# Altium schematic symbol library Schematic Components.SchLib: 39 symbols (part 1 of 2)
Pins are listed as number, name and electrical type; pins without a type are passive.

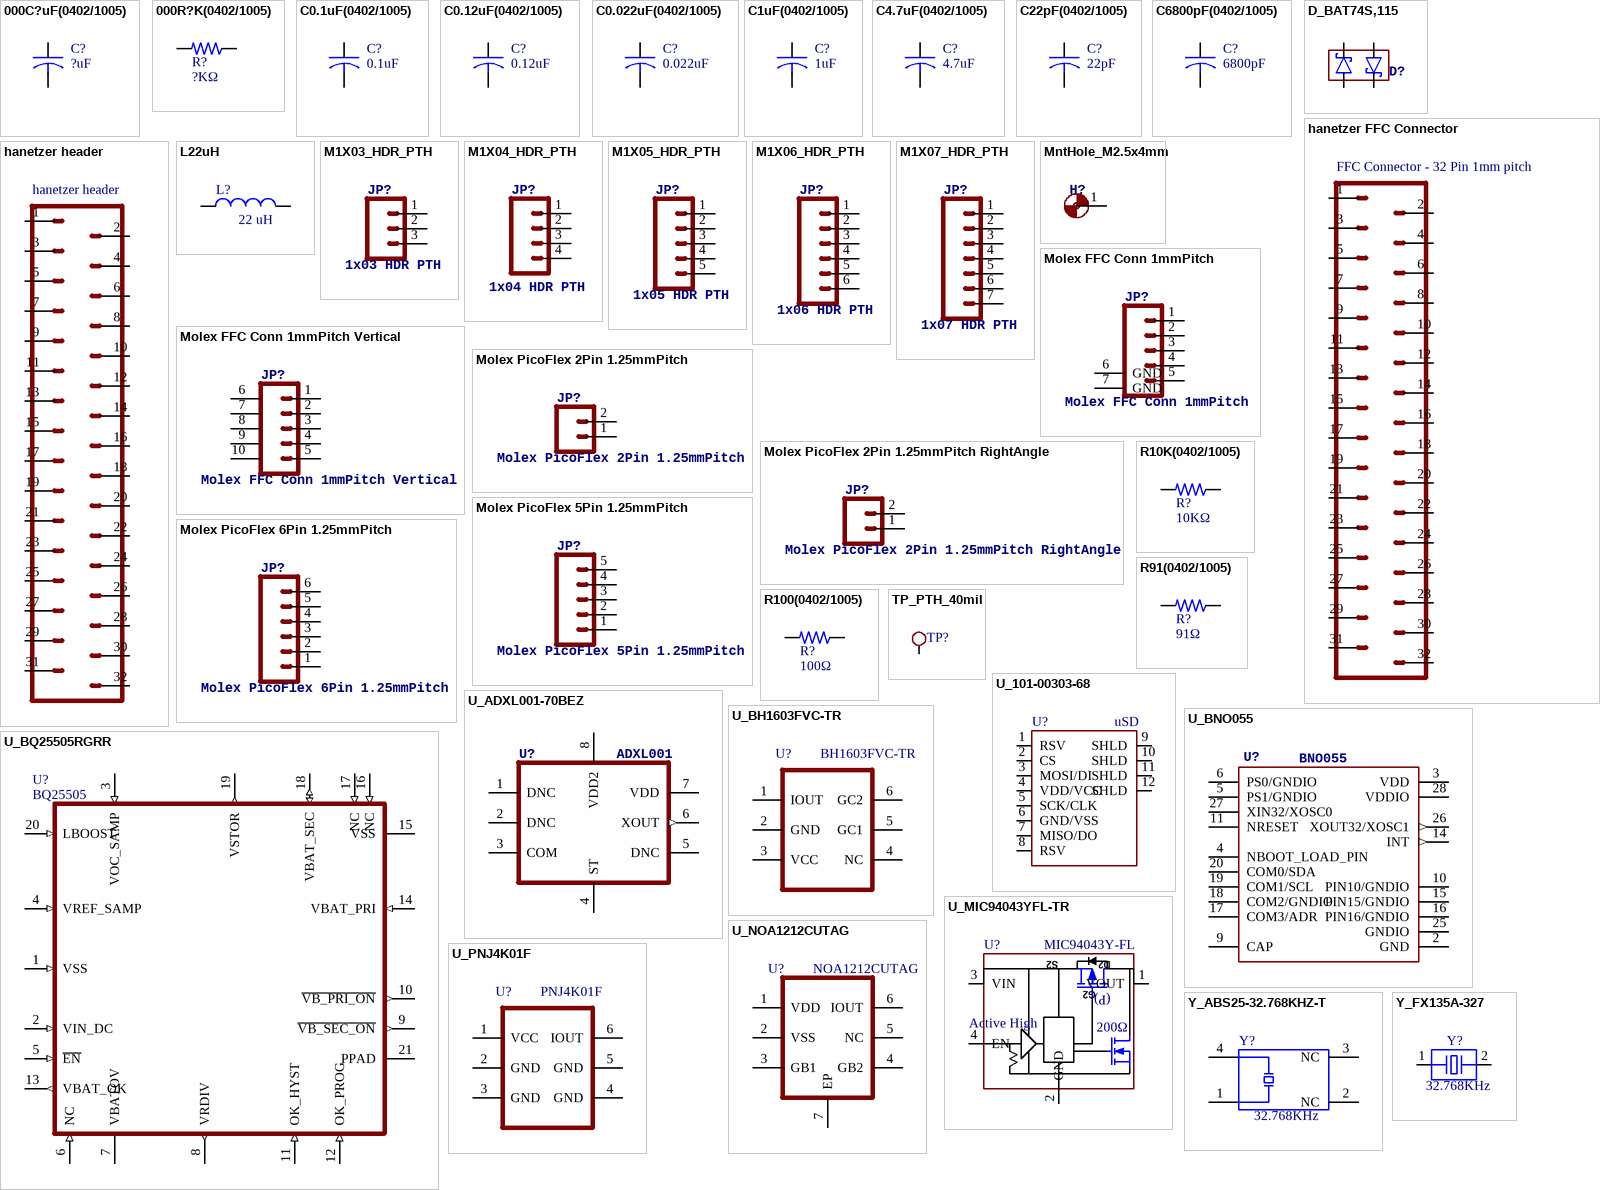
[diagram p0: symbols 000C?uF(0402/1005) to Y_FX135A-327]

## 000C?uF(0402/1005)
designator C?, comment ?uF
?uF Capacitor
footprint C0402_1005 (Chip Capacitor, 2-Leads, Body 1.00x0.50mm, IPC Medium Density)
pins: 1, 2

## 000R?K(0402/1005)
designator R?, comment ?KΩ
?KΩ Resistor
footprint R0402_1005 (Chip Resistor, 2-Leads, Body 1.00x0.50mm, IPC Medium Density)
pins: 1, 2

## C0.1uF(0402/1005)
designator C?, comment 0.1uF
0.1uF Capacitor (100nF); Manufacturer: Murata Electronics; Manufacturer Part Number: GRM155R71E104KE14D; Tolerance: 10 %; Type: General Purpose Ceramic Capacitors; Voltage Rating DC: 25 VDC; Capacitance - pF: 100000 pF; Class: Class 2; Dielectric: X7R; Supplier 1: Mouser; Supplier Part Number 1: 81-GRM155R71E104KE4D; RoHS: RoHS Compliant; Category: Multilayer Ceramic Capacitors MLCC - SMD/SMT; Stock 1: 1638426; Pricing 1: 1=0.100, 10=0.014, 100=0.009, 500=0.008, 1000=0.006, 2500=0.005, 10000=0.004, 50000=0.003 (USD); Capacitance: 0.1 uF; Height: 0.5 mm; Length: 1 mm; Package / Case: 0402 (1005 metric); Packaging: Reel; Product: General Type MLCCs; Series: GRM; Termination Style: SMD/SMT; Width: 0.5 mm; Brand: Murata Electronics; Capacitance - nF: 100 nF; Case Code - in: 0402; Case Code - mm: 1005; Maximum Operating Temperature: + 125 C; Minimum Operating Temperature: - 55 C; Standard Pack Qty: 10000; RoHS - Mouser: Y; Minimum Order Quantity: 1; Reeling: True; ComponentLink1URL: http://www.mouser.com/ds/2/281/c02e-2905.pdf; ComponentLink1Description: http://www.mouser.com/ds/2/281/c02e-2905.pdf; Supplier 2: Digi-Key; Supplier Part Number 2: 490-10698-1-ND
footprint C0402_1005 (Chip Capacitor, 2-Leads, Body 1.00x0.50mm, IPC Medium Density)
pins: 1, 2

## C0.12uF(0402/1005)
designator C?, comment 0.12uF
0.12uF Capacitor (120nF); Manufacturer: Murata Electronics North America; Manufacturer Part Number: GRM155R61A124KE19D; Capacitance: 0.12µF; Tolerance: ±10%; Voltage - Rated: 10V; Temperature Coefficient: X5R; Voltage Rating: 10; Voltage Rating DC: 10 V; Supplier 1: Digi-Key; Supplier Part Number 1: 490-6299-1-ND; RoHS: RoHS Compliant; Category: Capacitors; Stock 1: 71217; Pricing 1: 1=0.13, 10=0.091, 50=0.0522, 100=0.0432, 250=0.03636, 500=0.03046, 1000=0.025, 5000=0.02113 (USD); Packaging: Cut Tape (CT); Part Status: Active; Operating Temperature: -55°C ~ 85°C; Features: -; Ratings: -; Applications: General Purpose; Mounting Type: Surface Mount, MLCC; Package / Case: 0402 (1005 Metric); Size / Dimension: 0.039" L x 0.020" W (1.00mm x 0.50mm); Height - Seated (Max): -; Thickness (Max): 0.022" (0.55mm); Lead Spacing: -; ComponentLink1URL: http://www.murata.com/~/media/webrenewal/support/library/catalog/products/capacitor/mlcc/c02e.ashx; ComponentLink1Description: http://www.murata.com/~/media/webrenewal/support/library/catalog/products/capacitor/mlcc/c02e.ashx; Supplier 2: Mouser; Supplier Part Number 2: 81-GRM155R61A124KE9D; Stock 2: 15831; Pricing 2: 1=0.12, 10=0.052, 50=0.052, 100=0.036, 1000=0.025, 10000=0.017 (USD); Mount: Surface Mount; Case/Package: 0402; Case Code (Imperial): 0402; Case Code (Metric): 1005; Min Operating Temperature: -55; Max Operating Temperature: 85; Package Quantity: 10000; Type (Capacitors): X5R; Length: 0.039; Height: 0.5; Width: 0.02; Radiation Hardening: No; ComponentLink2URL: https://datasheet.ciiva.com/5421/product-5421508.pdf; ComponentLink2Description: https://datasheet.ciiva.com/5421/product-5421508.pdf; ComponentLink3URL: https://datasheet.ciiva.com/6270/partnumbering-e-01-6270634.pdf; ComponentLink3Description: https://datasheet.ciiva.com/6270/partnumbering-e-01-6270634.pdf; ComponentLink4URL: https://datasheet.ciiva.com/11618/product-11618490.pdf; ComponentLink4Description: https://datasheet.ciiva.com/11618/product-11618490.pdf; ComponentLink5URL: https://datasheet.ciiva.com/6270/partnumbering-e-01-6270635.pdf; ComponentLink5Description: https://datasheet.ciiva.com/6270/partnumbering-e-01-6270635.pdf; ComponentLink6URL: https://datasheet.ciiva.com/6270/partnumbering-e-01-6270636.pdf; ComponentLink6Description: https://datasheet.ciiva.com/6270/partnumbering-e-01-6270636.pdf; Dielectric: X5R
footprint C0402_1005 (Chip Capacitor, 2-Leads, Body 1.00x0.50mm, IPC Medium Density)
pins: 1, 2

## C0.022uF(0402/1005)
designator C?, comment 0.022uF
0.022uF Capacitor (22nF); Manufacturer: Murata Electronics North America; Manufacturer Part Number: GRM155R71E223JA61D; Capacitance: 0.022µF; Tolerance: ±5%; Voltage - Rated: 25V; Temperature Coefficient: X7R; Voltage Rating: 25; Voltage Rating DC: 25 V; Supplier 1: Digi-Key; Supplier Part Number 1: 490-10699-1-ND; RoHS: RoHS Compliant; Category: Capacitors; Stock 1: 49584; Pricing 1: 1=0.1, 10=0.059, 50=0.0322, 100=0.0272, 250=0.02228, 500=0.01906, 1000=0.01485, 5000=0.01237 (USD); Packaging: Cut Tape (CT); Part Status: Active; Operating Temperature: -55°C ~ 125°C; Features: -; Ratings: -; Applications: General Purpose; Mounting Type: Surface Mount, MLCC; Package / Case: 0402 (1005 Metric); Size / Dimension: 0.039" L x 0.020" W (1.00mm x 0.50mm); Height - Seated (Max): -; Thickness (Max): 0.022" (0.55mm); Lead Spacing: -; Lead Style: -; ComponentLink1URL: http://www.murata.com/~/media/webrenewal/support/library/catalog/products/capacitor/mlcc/c02e.ashx; ComponentLink1Description: http://www.murata.com/~/media/webrenewal/support/library/catalog/products/capacitor/mlcc/c02e.ashx; Supplier 2: Mouser; Supplier Part Number 2: 81-GRM155R71E223JA1D; Stock 2: 39233; Pricing 2: 1=0.1, 10=0.032, 50=0.032, 100=0.022, 1000=0.015, 10000=0.01 (USD); Case/Package: 0402; Case Code (Metric): 1005; Case Code (Imperial): 0402; Min Operating Temperature: -55; Max Operating Temperature: 125; Package Quantity: 10000; Voltage Rating (DC): 25; Type (Capacitors): X7R; Length: 0.039; Height: 0.5; Width: 0.02; ComponentLink2URL: https://datasheet.ciiva.com/29535/grm155r71e223ka61-01-29535418.pdf; ComponentLink2Description: https://datasheet.ciiva.com/29535/grm155r71e223ka61-01-29535418.pdf; ComponentLink3URL: https://datasheet.ciiva.com/5427/product-5427580.pdf; ComponentLink3Description: https://datasheet.ciiva.com/5427/product-5427580.pdf; Dielectric: X7R
footprint C0402_1005 (Chip Capacitor, 2-Leads, Body 1.00x0.50mm, IPC Medium Density)
pins: 1, 2

## C1uF(0402/1005)
designator C?, comment 1uF
1uF Capacitor; Manufacturer: Murata Electronics North America; Manufacturer Part Number: GRT155R61E105KE01D; Capacitance: 1µF; Tolerance: ±10%; Voltage - Rated: 25V; Temperature Coefficient: X5R; Supplier 1: Digi-Key; Supplier Part Number 1: 490-12263-1-ND; RoHS: RoHS Compliant; Category: Capacitors; Stock 1: 51226; Pricing 1: 1=0.11, 10=0.079, 100=0.0373, 500=0.02616, 1000=0.02166, 2500=0.02016, 5000=0.01844 (USD); Packaging: Cut Tape (CT); Part Status: Active; Operating Temperature: -55°C ~ 85°C; Features: Derating Recommended; Ratings: AEC-Q200; Applications: Automotive; Mounting Type: Surface Mount, MLCC; Package / Case: 0402 (1005 Metric); Size / Dimension: 0.039" L x 0.020" W (1.00mm x 0.50mm); Height - Seated (Max): -; Thickness (Max): 0.022" (0.55mm); Lead Spacing: -; Lead Style: -; ComponentLink1URL: http://search.murata.co.jp/Ceramy/image/img/A01X/G101/ENG/GRT155R61E105KE01-01.pdf; ComponentLink1Description: http://search.murata.co.jp/Ceramy/image/img/A01X/G101/ENG/GRT155R61E105KE01-01.pdf
footprint C0402_1005 (Chip Capacitor, 2-Leads, Body 1.00x0.50mm, IPC Medium Density)
pins: 1, 2

## C4.7uF(0402/1005)
designator C?, comment 4.7uF
4.7uF Capacitor; Manufacturer: TDK Corporation; Manufacturer Part Number: C1005X5R1A475K050BC; Capacitance: 4.7µF; Tolerance: ±10%; Voltage - Rated: 10V; Temperature Coefficient: X5R; Voltage Rating: 10; Voltage Rating DC: 10 V; Supplier 1: Digi-Key; Supplier Part Number 1: 445-13820-1-ND; RoHS: RoHS Compliant; Category: Capacitors; Stock 1: 276778; Pricing 1: 1=0.48, 10=0.424, 100=0.2121, 250=0.16968, 500=0.15454, 1000=0.13938, 5000=0.11514 (USD); Packaging: Cut Tape (CT); Part Status: Active; Operating Temperature: -55°C ~ 85°C; Features: Low ESL; Ratings: -; Applications: General Purpose; Failure Rate: -; Mounting Type: Surface Mount, MLCC; Package / Case: 0402 (1005 Metric); Size / Dimension: 0.039" L x 0.020" W (1.00mm x 0.50mm); Height - Seated (Max): -; Thickness (Max): 0.022" (0.55mm); Lead Spacing: -; Lead Style: -; ComponentLink1URL: https://product.tdk.com/info/en/catalog/datasheets/mlcc_commercial_general_en.pdf; ComponentLink1Description: https://product.tdk.com/info/en/catalog/datasheets/mlcc_commercial_general_en.pdf; Supplier 2: Mouser; Supplier Part Number 2: 810-C1005X5R1A475KBC; Stock 2: 157419; Pricing 2: 1=0.48, 10=0.42, 50=0.42, 100=0.168, 1000=0.138, 10000=0.096 (USD); Case/Package: 0402; Case Code (Metric): 1005; Case Code (Imperial): 0402; Min Operating Temperature: -55; Max Operating Temperature: 85; Package Quantity: 10000; Type (Capacitors): X5R; Length: 0.039; Height: 0.5; Width: 0.02; ComponentLink2URL: https://datasheet.ciiva.com/14895/tdkmlcccaprange-14895670.pdf; ComponentLink2Description: https://datasheet.ciiva.com/14895/tdkmlcccaprange-14895670.pdf; ComponentLink3URL: https://datasheet.ciiva.com/14895/tdkmlcccaprange-14895671.pdf; ComponentLink3Description: https://datasheet.ciiva.com/14895/tdkmlcccaprange-14895671.pdf; ComponentLink4URL: https://datasheet.ciiva.com/14895/tdkmlcccaprange-14895672.pdf; ComponentLink4Description: https://datasheet.ciiva.com/14895/tdkmlcccaprange-14895672.pdf; Dielectric: X5R
footprint C0402_1005 (Chip Capacitor, 2-Leads, Body 1.00x0.50mm, IPC Medium Density)
pins: 1, 2

## C22pF(0402/1005)
designator C?, comment 22pF
22pF Capacitor; Manufacturer: Samsung Electro-Mechanics America, Inc.; Manufacturer Part Number: CL05C220JB5NGNC; Tolerance: ±5%; Voltage - Rated: 50V; Temperature Coefficient: C0G, NP0; Dielectric: C0G (NP0); Voltage Rating DC: 50 V; Supplier 1: Digi-Key; Supplier Part Number 1: 1276-6529-1-ND; RoHS: RoHS Compliant; Category: Capacitors; Stock 1: 204339; Pricing 1: 1=0.1, 10=0.01, 25=0.0048, 50=0.0038, 100=0.003, 250=0.00256, 500=0.00218, 1000=0.00171, 5000=0.00143 (USD); Packaging: Cut Tape (CT); Part Status: Active; Capacitance: 22pF; Operating Temperature: -55°C ~ 125°C; Features: -; Ratings: -; Applications: General Purpose; Mounting Type: Surface Mount, MLCC; Package / Case: 0402 (1005 Metric); Size / Dimension: 0.039" L x 0.020" W (1.00mm x 0.50mm); Height - Seated (Max): -; Thickness (Max): 0.022" (0.55mm); Lead Spacing: -; Lead Style: -; ComponentLink1URL: http://www.samsungsem.com/kr/support/library/product-catalog/__icsFiles/afieldfile/2016/09/27/MLCC.pdf; ComponentLink1Description: http://www.samsungsem.com/kr/support/library/product-catalog/__icsFiles/afieldfile/2016/09/27/MLCC.pdf
footprint C0402_1005 (Chip Capacitor, 2-Leads, Body 1.00x0.50mm, IPC Medium Density)
pins: 1, 2

## C6800pF(0402/1005)
designator C?, comment 6800pF
6800pF Capacitor; Manufacturer: Samsung Electro-Mechanics America, Inc.; Manufacturer Part Number: CL05B682JB5NNNC; Tolerance: ±5%; Voltage - Rated: 50V; Temperature Coefficient: X7R; Voltage Rating DC: 50 V; Supplier 1: Digi-Key; Supplier Part Number 1: 1276-1584-1-ND; RoHS: RoHS Compliant; Category: Capacitors; Stock 1: 13900; Pricing 1: 1=0.11, 10=0.078, 25=0.0568, 50=0.0426, 100=0.0348, 250=0.02916, 500=0.02488, 1000=0.01955, 5000=0.01635 (USD); Packaging: Cut Tape (CT); Part Status: Active; Capacitance: 6800pF; Operating Temperature: -55°C ~ 125°C; Features: -; Ratings: -; Applications: General Purpose; Mounting Type: Surface Mount, MLCC; Package / Case: 0402 (1005 Metric); Size / Dimension: 0.039" L x 0.020" W (1.00mm x 0.50mm); Height - Seated (Max): -; Thickness (Max): 0.022" (0.55mm); Lead Spacing: -; Lead Style: -; ComponentLink1URL: http://www.samsungsem.com/kr/support/product-search/mlcc/__icsFiles/afieldfile/2016/08/18/S_CL05B682JB5NNNC.pdf; ComponentLink1Description: http://www.samsungsem.com/kr/support/product-search/mlcc/__icsFiles/afieldfile/2016/08/18/S_CL05B682JB5NNNC.pdf; Dielectric: X7R
footprint C0402_1005 (Chip Capacitor, 2-Leads, Body 1.00x0.50mm, IPC Medium Density)
pins: 1, 2

## D_BAT74S,115
designator D?  (value not drawn)
Dual Schottky Barrier Diode; Manufacturer: Nexperia USA Inc.; Diode Configuration: 2 Independent; Voltage - DC Reverse (Vr) (Max): 30V; Current - Average Rectified (Io) (per Diode): 200mA (DC); Voltage - Forward (Vf) (Max) @ If: 800mV @ 100mA; Speed: Small Signal =< 200mA (Io), Any Speed; Current - Reverse Leakage @ Vr: 2µA @ 25V; Supplier 1: Digi-Key; Supplier Part Number 1: 1727-1563-1-ND; Manufacturer Part Number: BAT74S,115; RoHS: RoHS Compliant; Category: Discrete Semiconductor Products; Stock 1: 2714; Pricing 1: 1=0.51, 10=0.38, 100=0.2151, 500=0.14242, 1000=0.10919 (USD); Packaging: Cut Tape (CT); Part Status: Active; Diode Type: Schottky; Operating Temperature - Junction: 125°C (Max); Mounting Type: Surface Mount; Package / Case: 6-TSSOP, SC-88, SOT-363; Supplier Device Package: 6-TSSOP; ComponentLink1URL: http://assets.nexperia.com/documents/data-sheet/BAT74S.pdf; ComponentLink1Description: http://assets.nexperia.com/documents/data-sheet/BAT74S.pdf
footprint D_BAT74S,115 (SOT23, 6-Leads, Body 2.00x2.10mm, Pitch 0.65mm, IPC Medium Density)
pins: 1 A1, 3 K2, 4 A2, 6 K1

## hanetzer FFC Connector
designator FFC Connector - 32 Pin 1mm pitch  (value not drawn)
Manufacturer: Amphenol FCI; Manufacturer Part Number: HFW32S-2STE1LF; Current Rating: 1 A; Mounting Angle: Straight; Number of Positions: 32 Position; Voltage Rating: 100 VAC/DC; Pitch: 1 mm; Actuation Type: Non ZIF; Contact Location: Bottom Contact; Insulation Resistance: 500 MOhms; Supplier 1: Mouser; Supplier Part Number 1: 649-HFW32S-2STE1LF; RoHS: RoHS Compliant; Category: FFC & FPC Connectors; Stock 1: 1236; Pricing 1: 1=0.530, 10=0.393, 100=0.377, 500=0.327, 1000=0.270, 2000=0.246, 5000=0.238, 10000=0.221, 25000=0.218 (USD); Contact Plating: Tin; Housing Material: Polyamide (PA); Packaging: Cut Tape; Product: Board Mount; Series: HFW-S; Termination Style: SMD; Brand: Amphenol FCI; Contact Material: Phosphor Bronze; Maximum Operating Temperature: + 85 C; Minimum Operating Temperature: - 55 C; Standard Pack Qty: 1000; RoHS - Mouser: Y; Minimum Order Quantity: 1; Reeling: True; ComponentLink1URL: https://www.mouser.com/ds/2/18/sc-hfws06-943200.pdf; ComponentLink1Description: https://www.mouser.com/ds/2/18/sc-hfws06-943200.pdf
footprint Hanetzer 32Pin FCC Connector
pins: 1, 2, 3, 4, 5, 6, 7, 8, 9, 10, 11, 12, 13, 14, 15, 16, 17, 18, 19, 20, 21, 22, 23, 24, 25, 26, 27, 28, 29, 30, 31, 32

## hanetzer header
designator hanetzer header  (value not drawn)
footprint hanetzer header
pins: 1, 2, 3, 4, 5, 6, 7, 8, 9, 10, 11, 12, 13, 14, 15, 16, 17, 18, 19, 20, 21, 22, 23, 24, 25, 26, 27, 28, 29, 30, 31, 32

## L22uH
designator L?, comment 22 uH
22uH Inductor; Manufacturer: Murata Electronics North America; Manufacturer Part Number: 1264EY-220M=P3; Type: Wirewound; Material - Core: Ferrite; Inductance: 22µH; Tolerance: ±20%; Current Rating: 2.3A; Shielding: Shielded; DC Resistance (DCR): 132 mOhm Max; Frequency - Test: 100kHz; Supplier 1: Digi-Key; Supplier Part Number 1: 490-10818-1-ND; RoHS: RoHS Compliant; Category: Inductors, Coils, Chokes; Stock 1: 2806; Pricing 1: 1=0.38, 10=0.338, 25=0.3, 50=0.2626, 100=0.2438, 250=0.225, 500=0.21376, 750=0.195 (USD); Packaging: Cut Tape (CT); Part Status: Active; Current - Saturation: -; Q @ Freq: -; Frequency - Self Resonant: -; Ratings: -; Operating Temperature: -; Mounting Type: Surface Mount; Package / Case: Nonstandard; Supplier Device Package: -; Size / Dimension: 0.248" L x 0.248" W (6.30mm x 6.30mm); Height - Seated (Max): 0.197" (5.00mm); ComponentLink1URL: http://www.toko.co.jp/products/pdf/inductors/dg6050c.pdf; ComponentLink1Description: http://www.toko.co.jp/products/pdf/inductors/dg6050c.pdf; Supplier 2: Mouser; Supplier Part Number 2: 81-1264EY-220MP3; Stock 2: 3590; Pricing 2: 1=0.5, 10=0.358, 50=0.358, 100=0.253, 1000=0.253, 10000=0.165 (USD)
footprint L_1264EY-220M=P3 (22uH Inductor, Precision Wire Wound Inductor, 2-Leads, Body 6.30x6.30mm, IPC Medium Density)
pins: 1, 2

## M1X03_HDR_PTH
designator JP?, comment 1x03 HDR PTH
1x03 Pin Header; Manufacturer: Wurth Electronics Inc; Manufacturer Part Number: 61300311121; Pitch - Mating: 0.100" (2.54mm); Shrouding: Unshrouded; Number of Positions: 3; Number of Positions Loaded: All; Contact Length - Mating: 0.236" (6.00mm); Supplier 1: Digi-Key; Supplier Part Number 1: 732-5316-ND; RoHS: RoHS Compliant; Category: Connectors, Interconnects; Stock 1: 10155; Pricing 1: 1=0.13, 10=0.106, 25=0.088, 50=0.074, 100=0.067, 1000=0.061 (USD); Packaging: Bulk; Part Status: Active; Connector Type: Header; Contact Type: Male Pin; Number of Rows: 1; Row Spacing - Mating: -; Mounting Type: Through Hole; Termination: Solder; Fastening Type: -; Features: -; Contact Finish - Mating: Gold; Contact Finish Thickness - Mating: -; Insulation Color: Black; Ingress Protection: -; ComponentLink1URL: http://katalog.we-online.de/em/datasheet/6130xx11121.pdf; ComponentLink1Description: http://katalog.we-online.de/em/datasheet/6130xx11121.pdf
footprint M1X03_HDR_PTH (1x03_HDR_PTH)
pins: 1, 2, 3

## M1X04_HDR_PTH
designator JP?, comment 1x04 HDR PTH
1x04 Pin Header; Manufacturer: Wurth Electronics Inc.; Manufacturer Part Number: 61300411121; Pitch - Mating: 0.100" (2.54mm); Style: Board to Board or Cable; Shrouding: Unshrouded; Number of Positions: 4; Number of Positions Loaded: All; Contact Length - Mating: 0.236" (6.00mm); Contact Length - Post: 0.118" (3.00mm); Overall Contact Length: 0.454" (11.54mm); Material Flammability Rating: UL94 V-0; Current Rating: 3A; Voltage Rating: 250V; Supplier 1: Digi-Key; Supplier Part Number 1: 732-5317-ND; RoHS: RoHS Compliant; Category: Connectors, Interconnects; Stock 1: 5637; Pricing 1: 1=0.24, 10=0.223, 25=0.19, 50=0.1664, 100=0.1544, 1000=0.10692, 10000=0.088 (USD); Packaging: Bulk; Part Status: Active; Connector Type: Header; Contact Type: Male Pin; Number of Rows: 1; Row Spacing - Mating: -; Mounting Type: Through Hole; Termination: Solder; Fastening Type: -; Insulation Height: 0.100" (2.54mm); Contact Shape: Square; Contact Finish - Mating: Gold; Contact Finish Thickness - Mating: -; Contact Finish - Post: -; Contact Material: Copper Alloy; Insulation Material: Polybutylene Terephthalate (PBT); Features: -; Operating Temperature: -40°C ~ 125°C; Ingress Protection: -; Insulation Color: Black; Mated Stacking Heights: -; Contact Finish Thickness - Post: -; Applications: -; ComponentLink1URL: http://katalog.we-online.de/em/datasheet/6130xx11121.pdf; ComponentLink1Description: http://katalog.we-online.de/em/datasheet/6130xx11121.pdf
footprint M1X04_HDR_PTH (1x04_HDR_PTH)
pins: 1, 2, 3, 4

## M1X05_HDR_PTH
designator JP?, comment 1x05 HDR PTH
1x05 Pin Header; Manufacturer: Wurth Electronics Inc; Manufacturer Part Number: 61300511121; Pitch - Mating: 0.100" (2.54mm); Shrouding: Unshrouded; Number of Positions: 5; Number of Positions Loaded: All; Contact Length - Mating: 0.236" (6.00mm); Supplier 1: Digi-Key; Supplier Part Number 1: 732-5318-ND; RoHS: RoHS Compliant; Category: Connectors, Interconnects; Stock 1: 8195; Pricing 1: 1=0.23, 100=0.2106, 500=0.1782 (USD); Packaging: Bulk; Part Status: Active; Connector Type: Header; Contact Type: Male Pin; Number of Rows: 1; Row Spacing - Mating: -; Mounting Type: Through Hole; Termination: Solder; Fastening Type: -; Features: -; Contact Finish - Mating: Gold; Contact Finish Thickness - Mating: -; Insulation Color: Black; Ingress Protection: -; ComponentLink1URL: http://katalog.we-online.de/em/datasheet/6130xx11121.pdf; ComponentLink1Description: http://katalog.we-online.de/em/datasheet/6130xx11121.pdf
footprint M1X05_HDR_PTH (1x05_HDR_PTH)
pins: 1, 2, 3, 4, 5

## M1X06_HDR_PTH
designator JP?, comment 1x06 HDR PTH
1x06 Pin Header; Manufacturer: Wurth Electronics Inc; Manufacturer Part Number: 61300611121; Pitch - Mating: 0.100" (2.54mm); Shrouding: Unshrouded; Number of Positions: 6; Number of Positions Loaded: All; Contact Length - Mating: 0.236" (6.00mm); Supplier 1: Digi-Key; Supplier Part Number 1: 732-5319-ND; RoHS: RoHS Compliant; Category: Connectors, Interconnects; Stock 1: 2975; Pricing 1: 1=0.31, 100=0.2808, 500=0.2376 (USD); Packaging: Bulk; Part Status: Active; Connector Type: Header; Contact Type: Male Pin; Number of Rows: 1; Row Spacing - Mating: -; Mounting Type: Through Hole; Termination: Solder; Fastening Type: -; Features: -; Contact Finish - Mating: Gold; Contact Finish Thickness - Mating: -; Insulation Color: Black; Ingress Protection: -; ComponentLink1URL: http://katalog.we-online.de/em/datasheet/6130xx11121.pdf; ComponentLink1Description: http://katalog.we-online.de/em/datasheet/6130xx11121.pdf
footprint M1X06_HDR_PTH (1x06_HDR_PTH)
pins: 1, 2, 3, 4, 5, 6

## M1X07_HDR_PTH
designator JP?, comment 1x07 HDR PTH
1x07 Pin Header; Manufacturer: Wurth Electronics Inc.; Manufacturer Part Number: 61300711121; Pitch - Mating: 0.100" (2.54mm); Style: Board to Board or Cable; Shrouding: Unshrouded; Number of Positions: 7; Number of Positions Loaded: All; Contact Length - Mating: 0.236" (6.00mm); Contact Length - Post: 0.118" (3.00mm); Overall Contact Length: 0.454" (11.54mm); Material Flammability Rating: UL94 V-0; Current Rating: 3A; Voltage Rating: 250V; Supplier 1: Digi-Key; Supplier Part Number 1: 732-5320-ND; RoHS: RoHS Compliant; Category: Connectors, Interconnects; Stock 1: 43; Pricing 1: 1=0.37, 10=0.315, 25=0.2632, 50=0.219, 100=0.199, 1000=0.181 (USD); Packaging: Bulk; Part Status: Active; Connector Type: Header; Contact Type: Male Pin; Number of Rows: 1; Row Spacing - Mating: -; Mounting Type: Through Hole; Termination: Solder; Fastening Type: Push-Pull; Insulation Height: 0.100" (2.54mm); Contact Shape: Square; Contact Finish - Mating: Gold; Contact Finish Thickness - Mating: -; Contact Finish - Post: -; Contact Material: Copper Alloy; Insulation Material: Polybutylene Terephthalate (PBT); Features: -; Operating Temperature: -40°C ~ 125°C; Ingress Protection: -; Insulation Color: Black; Mated Stacking Heights: -; Contact Finish Thickness - Post: -; Applications: -; ComponentLink1URL: http://katalog.we-online.de/em/datasheet/6130xx11121.pdf; ComponentLink1Description: http://katalog.we-online.de/em/datasheet/6130xx11121.pdf
footprint M1X07_HDR_PTH (1x07_HDR_PTH)
pins: 1, 2, 3, 4, 5, 6, 7

## MntHole_M2.5x4mm
designator H?, comment Mounting Hole  (value not drawn)  (no BOM)
Mount Hole for M2.5x4mm Machine Screws
footprint MntHole-M2.5x4mm (Mounting Hole, 2.5X4mm Machine Screws)
pins: 1

## Molex FFC Conn 1mmPitch
designator JP?
Manufacturer Part Number: 200528-0050; Gender: Receptacle; Rows: 1; Supplier 1: Mouser; Supplier Part Number 1: 538-200528-0050; Manufacturer: Molex; Stock 1: 0; Pricing 1: 1=0.41, 10=0.364, 50=0.364, 100=0.317, 1000=0.23, 10000=0.194 (USD); Termination: Surface Mount; Contact Plating: Gold; Contact Material: Bronze; REACH SVHC: Unknown; ComponentLink1URL: http://www.farnell.com/datasheets/2040137.pdf; ComponentLink1Description: http://www.farnell.com/datasheets/2040137.pdf
footprint Molex FFC Conn 1mmPitch
pins: 1, 2, 3, 4, 5, 6 GND, 7 GND

## Molex FFC Conn 1mmPitch Vertical
designator JP?
Manufacturer Part Number: 52610-0533; Rows: 1; Voltage Rating: 125; Positions: 5; Gender: Receptacle; Supplier 1: Mouser; Supplier Part Number 1: 538-52610-0533; Manufacturer: Molex; Stock 1: 1876; Pricing 1: 1=0.98, 10=0.839, 50=0.839, 100=0.766, 1000=0.547, 10000=0.485 (USD); Mount: Surface Mount; Case/Package: SMT; Min Operating Temperature: -40; Max Operating Temperature: 85; Contact Plating: Tin,Silver; Contact Material: Bronze; Housing Material: Nylon; Current Rating: 1; Package Quantity: 1000; Packaging: Tape and Reel; Pitch: 1; Termination: Solder; Contacts: 5; Orientation: Straight; Circuits: 5; REACH SVHC: Unknown; ComponentLink1URL: https://datasheet.ciiva.com/22747/1752219-22747849.pdf; ComponentLink1Description: https://datasheet.ciiva.com/22747/1752219-22747849.pdf; ComponentLink2URL: https://datasheet.ciiva.com/22747/1752219-22747850.pdf; ComponentLink2Description: https://datasheet.ciiva.com/22747/1752219-22747850.pdf; ComponentLink3URL: https://datasheet.ciiva.com/24132/0526100533-ffc-fpc-connectors-295170-24132559.pdf; ComponentLink3Description: https://datasheet.ciiva.com/24132/0526100533-ffc-fpc-connectors-295170-24132559.pdf
footprint Molex FFC Conn 1mmPitch Vertical
pins: 1, 2, 3, 4, 5, 6 GND, 7 GND, 8 GND, 9 GND, 10 GND

## Molex PicoFlex 2Pin 1.25mmPitch
designator JP?
Manufacturer Part Number: 53047-0210; Shape: Straight; Body Plating: Tin; Contact Resistance: 20; Current Rating: 1; Voltage Rating: 125; Number of Poles: 2; Insulation Resistance: 100; Gender: Male; Pitch: 1.25; Glow Wire Compliant: Non-compliant; Supplier 1: Mouser; Supplier Part Number 1: 538-53047-0210; Manufacturer: Molex; Stock 1: 20051; Pricing 1: 1=0.32, 10=0.233, 50=0.233, 100=0.201, 1000=0.146, 10000=0.128 (USD); Mount: Through Hole; Contact Plating: Nickel,Tin,Gold; Contact Material: Bronze,Brass,Tin; Housing Colour: Black; Colour: Natural; Housing Material: Polyamide; Min Operating Temperature: -40; Max Operating Temperature: 85; Number of Rows: 1; Voltage Rating (AC): 125; Max Current Rating: 1; Packaging: Tray; Package Quantity: 5000; Number of Positions: 2; Termination: Solder; Number of Contacts: 2; Working Voltage: 125; Orientation: Straight; Number of Circuits: 2; Voltage Rating (DC): 125; Length: 71.1; Height: 9.3; Lead Pitch: 1.25; Depth: 8.78; Radiation Hardening: No; REACH SVHC: Unknown; Lead Free: Lead Free; Flammability Rating: UL94 V-0; ComponentLink1URL: https://datasheet.ciiva.com/10090/0530470210-pcb-headers-10090352.pdf; ComponentLink1Description: https://datasheet.ciiva.com/10090/0530470210-pcb-headers-10090352.pdf; ComponentLink2URL: https://datasheet.ciiva.com/11750/0900766b8024e2fd-11750276.pdf; ComponentLink2Description: https://datasheet.ciiva.com/11750/0900766b8024e2fd-11750276.pdf; ComponentLink3URL: https://datasheet.ciiva.com/7920/1861728-7920822.pdf; ComponentLink3Description: https://datasheet.ciiva.com/7920/1861728-7920822.pdf; ComponentLink4URL: https://datasheet.ciiva.com/30132/224410530470210-pcb-headers-30132247.pdf; ComponentLink4Description: https://datasheet.ciiva.com/30132/224410530470210-pcb-headers-30132247.pdf; ComponentLink5URL: https://datasheet.ciiva.com/19462/2018301-19462329.pdf; ComponentLink5Description: https://datasheet.ciiva.com/19462/2018301-19462329.pdf; ComponentLink6URL: https://datasheet.ciiva.com/5155/0530470210-pcb-headers-170763-5155194.pdf; ComponentLink6Description: https://datasheet.ciiva.com/5155/0530470210-pcb-headers-170763-5155194.pdf; ComponentLink7URL: https://datasheet.ciiva.com/19461/1973787-19461710.pdf; ComponentLink7Description: https://datasheet.ciiva.com/19461/1973787-19461710.pdf
footprint Molex PicoFlex 2Pin 1.25mmPitch
pins: 1, 2

## Molex PicoFlex 2Pin 1.25mmPitch RightAngle
designator JP?
Manufacturer Part Number: 53048-0210; Number of Poles: 2; Contact Resistance: 20; Voltage Rating: 125; Current Rating: 1; Insulation Resistance: 100; Gender: Male; Pitch: 1.25; Glow Wire Compliant: Non-compliant; Supplier 1: Mouser; Supplier Part Number 1: 538-53048-0210; Manufacturer: Molex; Stock 1: 4757; Pricing 1: 1=0.36, 10=0.268, 50=0.268, 100=0.232, 1000=0.168, 10000=0.147 (USD); Mount: Through Hole; Contact Plating: Tin; Contact Material: Bronze,Brass,Tin; Colour: Natural; Housing Colour: Natural; Housing Material: Nylon; Min Operating Temperature: -40; Max Operating Temperature: 85; Number of Rows: 1; Package Quantity: 5000; Packaging: Tray; Number of Positions: 2; Termination: Through Hole; Number of Contacts: 2; Orientation: Right Angle; Number of Circuits: 2; Voltage Rating (DC): 125; Length: 4.25; Height: 3.5; Width: 5.5; Radiation Hardening: No; REACH SVHC: Unknown; Lead Free: Lead Free; Flammability Rating: UL94 V-0; ComponentLink1URL: https://datasheet.ciiva.com/11747/0900766b8024e368-11747237.pdf; ComponentLink1Description: https://datasheet.ciiva.com/11747/0900766b8024e368-11747237.pdf; ComponentLink2URL: https://datasheet.ciiva.com/7920/1864644-7920823.pdf; ComponentLink2Description: https://datasheet.ciiva.com/7920/1864644-7920823.pdf; ComponentLink3URL: https://datasheet.ciiva.com/10089/0530480210-pcb-headers-10089466.pdf; ComponentLink3Description: https://datasheet.ciiva.com/10089/0530480210-pcb-headers-10089466.pdf; ComponentLink4URL: https://datasheet.ciiva.com/30106/0530480210-pcb-headers-30106987.pdf; ComponentLink4Description: https://datasheet.ciiva.com/30106/0530480210-pcb-headers-30106987.pdf; ComponentLink5URL: https://datasheet.ciiva.com/16657/0530480210-pcb-headers-16657820.pdf; ComponentLink5Description: https://datasheet.ciiva.com/16657/0530480210-pcb-headers-16657820.pdf; ComponentLink6URL: https://datasheet.ciiva.com/34303/1932521-34303341.pdf; ComponentLink6Description: https://datasheet.ciiva.com/34303/1932521-34303341.pdf
footprint Molex PicoFlex 2Pin 1.25mmPitch RightAngle
pins: 1, 2

## Molex PicoFlex 5Pin 1.25mmPitch
designator JP?
Manufacturer Part Number: 53047-0510; Contact Resistance: 20; Current Rating: 1; Voltage Rating: 125; Number of Poles: 5; Max Current Rating: 15; Pitch: 1.25; Shape: Straight; Max Voltage Rating (DC): 300; Body Plating: Tin; Insulation Resistance: 100; Max Voltage Rating (AC): 250; Gender: Male; Glow Wire Compliant: Non-compliant; Supplier 1: Mouser; Supplier Part Number 1: 538-53047-0510; Manufacturer: Molex; Stock 1: 19882; Pricing 1: 1=0.46, 10=0.371, 50=0.371, 100=0.324, 1000=0.232, 10000=0.208 (USD); Mount: Through Hole,Vertical; Min Operating Temperature: -40; Max Operating Temperature: 85; Lead Pitch: 1.25; Contact Plating: Tin,Gold; Number of Rows: 1; Contact Material: Bronze,Brass,Tin; Voltage Rating (AC): 125; Housing Material: Polyamide; Packaging: Tray; Package Quantity: 4000; Number of Positions: 5; Termination: Solder; Number of Contacts: 5; Working Voltage: 125; Orientation: Straight; Housing Colour: Black; Colour: Natural; Number of Circuits: 5; Voltage Rating (DC): 125; Length: 8; Height: 4.2; Width: 3.2; Depth: 8.3; REACH SVHC: Unknown; Lead Free: Lead Free; ComponentLink1URL: https://datasheet.ciiva.com/30237/223050530470510-pcb-headers-30237888.pdf; ComponentLink1Description: https://datasheet.ciiva.com/30237/223050530470510-pcb-headers-30237888.pdf; ComponentLink2URL: https://datasheet.ciiva.com/9468/0530470510-pcb-headers-9468498.pdf; ComponentLink2Description: https://datasheet.ciiva.com/9468/0530470510-pcb-headers-9468498.pdf; ComponentLink3URL: https://datasheet.ciiva.com/11746/0900766b800a8aab-11746274.pdf; ComponentLink3Description: https://datasheet.ciiva.com/11746/0900766b800a8aab-11746274.pdf; ComponentLink4URL: https://datasheet.ciiva.com/19462/2020953-19462196.pdf; ComponentLink4Description: https://datasheet.ciiva.com/19462/2020953-19462196.pdf; ComponentLink5URL: https://datasheet.ciiva.com/14156/ge116819-116832-e-14156236.pdf; ComponentLink5Description: https://datasheet.ciiva.com/14156/ge116819-116832-e-14156236.pdf; ComponentLink6URL: https://datasheet.ciiva.com/19462/1973795-19462108.pdf; ComponentLink6Description: https://datasheet.ciiva.com/19462/1973795-19462108.pdf; ComponentLink7URL: https://datasheet.ciiva.com/5148/0530470510-pcb-headers-171009-5148798.pdf; ComponentLink7Description: https://datasheet.ciiva.com/5148/0530470510-pcb-headers-171009-5148798.pdf
footprint Molex PicoFlex 5Pin 1.25mmPitch
pins: 1, 2, 3, 4, 5

## Molex PicoFlex 6Pin 1.25mmPitch
designator JP?
Manufacturer Part Number: 53047-0510; Shape: Straight; Body Plating: Tin; Contact Resistance: 20; Current Rating: 1; Voltage Rating: 125; Number of Poles: 5; Max Current Rating: 15; Max Voltage Rating (DC): 300; Insulation Resistance: 100; Max Voltage Rating (AC): 250; Gender: Male; Pitch: 1.25; Glow Wire Compliant: Non-compliant; Supplier 1: Mouser; Supplier Part Number 1: 538-53047-0510; Manufacturer: Molex; Stock 1: 19718; Pricing 1: 1=0.46, 10=0.371, 50=0.371, 100=0.324, 1000=0.232, 10000=0.208 (USD); Mount: Through Hole; Contact Plating: Tin,Gold; Contact Material: Bronze,Brass,Tin; Housing Colour: Black; Colour: Natural; Housing Material: Polyamide; Min Operating Temperature: -40; Max Operating Temperature: 85; Number of Rows: 1; Voltage Rating (AC): 125; Packaging: Tray; Package Quantity: 4000; Number of Positions: 5; Termination: Solder; Number of Contacts: 5; Working Voltage: 125; Orientation: Straight; Number of Circuits: 5; Voltage Rating (DC): 125; Length: 8; Height: 4.2; Lead Pitch: 1.25; Width: 3.2; Depth: 8.3; Radiation Hardening: No; REACH SVHC: Unknown; Lead Free: Lead Free; Flammability Rating: UL94 V-0; ComponentLink1URL: https://datasheet.ciiva.com/30237/223050530470510-pcb-headers-30237888.pdf; ComponentLink1Description: https://datasheet.ciiva.com/30237/223050530470510-pcb-headers-30237888.pdf; ComponentLink2URL: https://datasheet.ciiva.com/9468/0530470510-pcb-headers-9468498.pdf; ComponentLink2Description: https://datasheet.ciiva.com/9468/0530470510-pcb-headers-9468498.pdf; ComponentLink3URL: https://datasheet.ciiva.com/11746/0900766b800a8aab-11746274.pdf; ComponentLink3Description: https://datasheet.ciiva.com/11746/0900766b800a8aab-11746274.pdf; ComponentLink4URL: https://datasheet.ciiva.com/19462/2020953-19462196.pdf; ComponentLink4Description: https://datasheet.ciiva.com/19462/2020953-19462196.pdf; ComponentLink5URL: https://datasheet.ciiva.com/14156/ge116819-116832-e-14156236.pdf; ComponentLink5Description: https://datasheet.ciiva.com/14156/ge116819-116832-e-14156236.pdf; ComponentLink6URL: https://datasheet.ciiva.com/19462/1973795-19462108.pdf; ComponentLink6Description: https://datasheet.ciiva.com/19462/1973795-19462108.pdf; ComponentLink7URL: https://datasheet.ciiva.com/5148/0530470510-pcb-headers-171009-5148798.pdf; ComponentLink7Description: https://datasheet.ciiva.com/5148/0530470510-pcb-headers-171009-5148798.pdf
footprint Molex PicoFlex 6Pin 1.25mmPitch
pins: 1, 2, 3, 4, 5, 6

## R10K(0402/1005)
designator R?, comment 10KΩ
10KΩ Resistor; Manufacturer: KOA Speer; Manufacturer Part Number: RK73H1ETTP1002F; Power Rating: 100 mW (1/10 W); Resistance: 10 kOhms; Temperature Coefficient: 100 PPM / C; Tolerance: 1 %; Voltage Rating: 50 V; Supplier 1: Mouser; Supplier Part Number 1: 660-RK73H1ETTP1002F; RoHS: RoHS Compliant By Exemption; Category: Thick Film Resistors - SMD; Stock 1: 891003; Pricing 1: 1=0.100, 10=0.024, 100=0.006, 1000=0.004, 10000=0.003 (USD); Features: Anti-leaching nickel barrier terminations; Height: 0.35 mm; Length: 1 mm; Operating Temperature Range: - 55 C to + 155 C; Package / Case: 0402 (1005 metric); Packaging: Reel; Product: Thick Film Resistors SMD; Series: RK73H; Termination Style: SMD/SMT; Type: Precision Thick Film Chip Resistor; Width: 0.5 mm; Brand: KOA Speer; Case Code - in: 0402; Case Code - mm: 1005; Maximum Operating Temperature: + 155 C; Minimum Operating Temperature: - 55 C; Standard Pack Qty: 10000; RoHS - Mouser: E; Minimum Order Quantity: 1; Reeling: True; ComponentLink1URL: http://www.mouser.com/ds/2/219/RK73H-5715.pdf; ComponentLink1Description: http://www.mouser.com/ds/2/219/RK73H-5715.pdf
footprint R0402_1005 (Chip Resistor, 2-Leads, Body 1.00x0.50mm, IPC Medium Density)
pins: 1, 2

## R91(0402/1005)
designator R?, comment 91Ω
91Ω Resistor; Manufacturer: Panasonic Electronic Components; Manufacturer Part Number: ERJ-2RKF91R0X; Resistance (Ohms): 91; Tolerance: ±1%; Power (Watts): 0.1W, 1/10W; Temperature Coefficient: ±100ppm/°C; Supplier 1: Digi-Key; Supplier Part Number 1: P91.0LCT-ND; RoHS: RoHS Compliant; Category: Resistors; Stock 1: 34324; Pricing 1: 1=0.1, 10=0.025, 25=0.018, 50=0.0136, 100=0.01, 250=0.00764, 500=0.00612, 1000=0.00451, 5000=0.00323 (USD); Packaging: Cut Tape (CT); Part Status: Active; Composition: Thick Film; Features: Automotive AEC-Q200; Operating Temperature: -55°C ~ 155°C; Package / Case: 0402 (1005 Metric); Supplier Device Package: 0402; Size / Dimension: 0.039" L x 0.020" W (1.00mm x 0.50mm); Height - Seated (Max): 0.016" (0.40mm); Number of Terminations: 2; Failure Rate: -; ComponentLink1URL: https://industrial.panasonic.com/cdbs/www-data/pdf/RDA0000/AOA0000C283.pdf; ComponentLink1Description: https://industrial.panasonic.com/cdbs/www-data/pdf/RDA0000/AOA0000C283.pdf
footprint R0402_1005 (Chip Resistor, 2-Leads, Body 1.00x0.50mm, IPC Medium Density)
pins: 1, 2

## R100(0402/1005)
designator R?, comment 100Ω
100Ω Resistor; Manufacturer: Panasonic Electronic Components; Manufacturer Part Number: ERJ-2GEJ101X; Resistance (Ohms): 100; Tolerance: ±5%; Power (Watts): 0.1W, 1/10W; Temperature Coefficient: ±200ppm/°C; Supplier 1: Digi-Key; Supplier Part Number 1: P100JCT-ND; RoHS: RoHS Compliant; Category: Resistors; Stock 1: 2360272; Pricing 1: 1=0.1, 10=0.017, 25=0.0128, 50=0.0096, 100=0.0071, 250=0.0054, 500=0.00432, 1000=0.00318, 5000=0.00228 (USD); Packaging: Cut Tape (CT); Part Status: Active; Composition: Thick Film; Features: Automotive AEC-Q200; Operating Temperature: -55°C ~ 155°C; Package / Case: 0402 (1005 Metric); Supplier Device Package: 0402; Size / Dimension: 0.039" L x 0.020" W (1.00mm x 0.50mm); Height - Seated (Max): 0.016" (0.40mm); Number of Terminations: 2; Failure Rate: -; ComponentLink1URL: http://industrial.panasonic.com/www-cgi/jvcr13pz.cgi?E+PZ+3+AOA0001+ERJ2GEJ101X+7+WW; ComponentLink1Description: http://industrial.panasonic.com/www-cgi/jvcr13pz.cgi?E+PZ+3+AOA0001+ERJ2GEJ101X+7+WW
footprint R0402_1005 (Chip Resistor, 2-Leads, Body 1.00x0.50mm, IPC Medium Density)
pins: 1, 2

## TP_PTH_40mil
designator TP?, comment TP  (value not drawn)  (no BOM)
Drilled, Plated Test Point, for affixing a Header Pin if desired
footprint TP_PTH_40mil (Drilled, Plated Test Point, for affixing a Header Pin if desired)
pins: 1

## U_101-00303-68
designator U?, comment uSD
MicroSD Adapter; Manufacturer: Amphenol Commercial Products; Manufacturer Part Number: 101-00303-68; Card Type: Secure Digital - microSD™; Number of Positions: 8; Connector Type: Connector; Insertion, Removal Method: Hinged Lid; Supplier 1: Digi-Key; Supplier Part Number 1: 101-00303-68-1-ND; RoHS: RoHS Compliant; Category: Connectors, Interconnects; Stock 1: 871; Pricing 1: 1=1.26, 10=1.111, 25=1.0456, 50=1.0018, 100=0.9583, 250=0.8712, 500=0.78408 (USD); Packaging: Cut Tape (CT); Part Status: Last Time Buy; Ejector Side: -; Mounting Type: Surface Mount, Right Angle; Features: -; Height Above Board: 0.071" (1.80mm); Mounting Feature: Normal, Standard - Top; Contact Finish: Gold; Contact Finish Thickness: 15µin (0.38µm); ComponentLink1URL: https://www.amphenolcanada.com/ProductSearch/drawings/AC/1010030368.pdf; ComponentLink1Description: https://www.amphenolcanada.com/ProductSearch/drawings/AC/1010030368.pdf
footprint U_101-00303-68 (Micro SD Card Adapter)
pins: 1 RSV, 2 CS, 3 MOSI/DI, 4 VDD/VCC, 5 SCK/CLK, 6 GND/VSS, 7 MISO/DO, 8 RSV, 9 SHLD, 10 SHLD, 11 SHLD, 12 SHLD

## U_ADXL001-70BEZ
designator U?, comment ADXL001
ADXL001 Accelerometer, ±70g; Manufacturer: Analog Devices Inc.; Manufacturer Part Number: ADXL001-70BEZ; Axis: X; Sensitivity (mV/g): 16; Bandwidth: 32kHz; Output Type: Analog Voltage; Voltage - Supply: 3.135 V ~ 6 V; Supplier 1: Digi-Key; Supplier Part Number 1: ADXL001-70BEZ-ND; RoHS: RoHS Compliant; Category: Sensors, Transducers; Stock 1: 140; Pricing 1: 1=34.15, 10=31.499, 100=26.8983 (USD); Packaging: Tube; Part Status: Active; Type: Analog; Acceleration Range: ±70g; Sensitivity (LSB/g): -; Features: -; Operating Temperature: -40°C ~ 125°C (TA); Mounting Type: Surface Mount; Package / Case: 8-CLCC; Supplier Device Package: 8-LCC (5x5); ComponentLink1URL: http://www.analog.com/media/en/technical-documentation/data-sheets/ADXL001.pdf; ComponentLink1Description: http://www.analog.com/media/en/technical-documentation/data-sheets/ADXL001.pdf; Supplier 2: Mouser; Supplier Part Number 2: 584-ADXL001-70BEZ
footprint U_ADXL001-70BEZ
pins: 1 DNC, 2 DNC, 3 COM, 4 ST, 5 DNC, 6 XOUT (out), 7 VDD (power), 8 VDD2 (power)

## U_BH1603FVC-TR
designator U?, comment BH1603FVC-TR
Ambient Light Sensor; Manufacturer: Rohm; Wavelength: 560; Min Supply Voltage: 2.4; Max Supply Voltage: 5.5; Power Dissipation: 260; Nominal Supply Current: 74; Supplier 1: Mouser; Supplier Part Number 1: 755-BH1603FVC-TR; Manufacturer Part Number: BH1603FVC-TR; Stock 1: 1193; Pricing 1: 1=1.09, 10=0.924, 50=0.924, 100=0.71, 1000=0.495, 10000=0.423 (USD); Mount: Surface Mount; Case/Package: SOP; Number of Pins: 6; Contact Plating: Copper,Tin; Min Operating Temperature: -40; Max Operating Temperature: 85; Package Quantity: 3000; Packaging: Tape and Reel; Product Type: Integrated Circuit (IC); Termination: SMD; Length: 1.6; Height: 0.75; Width: 2.6; REACH SVHC: No SVHC; Lead Free: Lead Free; ComponentLink1URL: https://datasheet.ciiva.com/2819/bh1603fvc-e-2819280.pdf; ComponentLink1Description: https://datasheet.ciiva.com/2819/bh1603fvc-e-2819280.pdf; ComponentLink2URL: https://datasheet.ciiva.com/1170/389147-1170513.pdf; ComponentLink2Description: https://datasheet.ciiva.com/1170/389147-1170513.pdf; ComponentLink3URL: https://datasheet.ciiva.com/1166/389147-1166946.pdf; ComponentLink3Description: https://datasheet.ciiva.com/1166/389147-1166946.pdf; ComponentLink4URL: https://datasheet.ciiva.com/1170/389147-1170514.pdf; ComponentLink4Description: https://datasheet.ciiva.com/1170/389147-1170514.pdf; ComponentLink5URL: https://datasheet.ciiva.com/16226/bh1603fvc-e-16226386.pdf; ComponentLink5Description: https://datasheet.ciiva.com/16226/bh1603fvc-e-16226386.pdf; ComponentLink6URL: https://datasheet.ciiva.com/17075/0900766b80df1f79-17075194.pdf; ComponentLink6Description: https://datasheet.ciiva.com/17075/0900766b80df1f79-17075194.pdf; ComponentLink7URL: https://datasheet.ciiva.com/4697/bh1603fvc-e-190510-4697243.pdf; ComponentLink7Description: https://datasheet.ciiva.com/4697/bh1603fvc-e-190510-4697243.pdf; ComponentLink8URL: https://datasheet.ciiva.com/2819/bh1603fvc-e-2819278.pdf; ComponentLink8Description: https://datasheet.ciiva.com/2819/bh1603fvc-e-2819278.pdf; ComponentLink9URL: https://datasheet.ciiva.com/2819/bh1603fvc-e-2819279.pdf; ComponentLink9Description: https://datasheet.ciiva.com/2819/bh1603fvc-e-2819279.pdf; ComponentLink10URL: https://datasheet.ciiva.com/26929/bh1603fvc-tr-26929219.pdf; ComponentLink10Description: https://datasheet.ciiva.com/26929/bh1603fvc-tr-26929219.pdf
footprint U_BH1603FVC-TR (SOTFL, 6-Leads, Body 1.60x3.00mm, Pitch 0.50mm, IPC Medium Density)
pins: 1 IOUT, 2 GND, 3 VCC, 4 NC, 5 GC1, 6 GC2

## U_BNO055
designator U?, comment BNO055
Bosch MEMS Sensor; Manufacturer: Bosch Sensortec; Sensor Type: Accelerometer, Gyroscope, Magnetometer, 3 Axis; Output Type: I²C; Supplier 1: Digi-Key; Supplier Part Number 1: 828-1058-1-ND; Manufacturer Part Number: BNO055; RoHS: RoHS Compliant; Category: Sensors, Transducers; Stock 1: 4226; Pricing 1: 1=12.98, 5=11.386, 10=10.247, 25=9.108, 50=8.425, 100=7.2864, 500=6.831, 1000=6.3756 (USD); Part Status: Active; Operating Temperature: -40°C ~ 85°C (TA); ComponentLink1URL: https://ae-bst.resource.bosch.com/media/_tech/media/datasheets/BST_BNO055_DS000_14.pdf; ComponentLink1Description: https://ae-bst.resource.bosch.com/media/_tech/media/datasheets/BST_BNO055_DS000_14.pdf
footprint U_BNO055 (LGA, 28-Leads, Body 5.20x3.80mmx1.18mm, Pitch 0.50mm)
pins: 2 GND (power), 3 VDD (power), 4 NBOOT_LOAD_PIN, 5 PS1/GNDIO, 6 PS0/GNDIO, 9 CAP, 10 PIN10/GNDIO (power), 11 NRESET, 14 INT (out), 15 PIN15/GNDIO (power), 16 PIN16/GNDIO (power), 17 COM3/ADR, 18 COM2/GNDIO, 19 COM1/SCL, 20 COM0/SDA, 25 GNDIO (power), 26 XOUT32/XOSC1 (out), 27 XIN32/XOSC0, 28 VDDIO (power)

## U_BQ25505RGRR
designator U?, comment BQ25505
Energy Harvester; Manufacturer: Texas Instruments; Manufacturer Part Number: BQ25505RGRR; Output Current: 100 mA; Output Voltage: Adjustable; Battery Type: Li-Ion, Li-Polymer, LiFePO4, SuperCap; Operating Supply Voltage: 120 mV to 4.0 V; Supplier 1: Mouser; RoHS: RoHS Compliant; Category: Battery Management; Stock 1: 3000; Pricing 1: 1=5.72, 10=5.14, 25=4.79, 50=4.53, 100=4.21, 250=3.99, 500=3.58, 1000=2.70, 3000=2.70 (USD); Package / Case: VQFN-20; Packaging: Reel; Series: BQ25505; Brand: Texas Instruments; Standard Pack Qty: 3000; RoHS - Mouser: Y; Minimum Order Quantity: 1; Reeling: True; ComponentLink1URL: http://www.mouser.com/ds/2/405/bq25505-556989.pdf; ComponentLink1Description: http://www.mouser.com/ds/2/405/bq25505-556989.pdf; Supplier Part Number 1: 595-BQ25505RGRR
footprint U_BQ25505RGRR (Energy Harvester, PQFN, 20-Leads, Body 3.50x3.50mm, Pitch 0.50mm, Thermal Pad 2.05x2.05mm, IPC Medium Density)
pins: 1 VSS (in), 2 VIN_DC (in), 3 VOC_SAMP (in), 4 VREF_SAMP (in), 5 ~{EN} (in), 6 NC (in), 7 VBATOV, 8 VRDIV (out), 9 ~{VB_SEC_ON} (out), 10 ~{VB_PRI_ON} (out), 11 OK_HYST (in), 12 OK_PROG (in), 13 VBAT_OK (out), 14 VBAT_PRI (in), 15 VSS, 16 NC (in), 17 NC (in), 18 VBAT_SEC (io), 19 VSTOR (out), 20 LBOOST (in), 21 PPAD

## U_MIC94043YFL-TR
designator U?, comment MIC94043Y-FL
High Side Load Switch; Manufacturer: Microchip Technology / Micrel; Manufacturer Part Number: MIC94043YFL-TR; Operating Supply Voltage: 1.7 V to 5.5 V; Supply Voltage - Max: 5.5 V; Supply Voltage - Min: 1.7 V; Switch Type: General Purpose; Number of Outputs: 1; Ratio - Input:Output: 1:1; Output Type: P-Channel; Interface: On/Off; Voltage - Load: 1.7 V ~ 5.5 V; Voltage - Supply (Vcc/Vdd): Not Required; Current - Output (Max): 3A; Rds On (Typ): 28 mOhm; Input Type: Non-Inverting; Supplier 1: Mouser; Supplier Part Number 1: 998-MIC94043YFLTR; RoHS: RoHS Compliant; Category: Power Switch ICs - Power Distribution; Stock 1: 0; Pricing 1: 1=0.880, 10=0.810, 25=0.670, 100=0.610, 5000=0.610 (USD); Packaging: Reel; Product: USB Load Switches; Type: High Side; Brand: Microchip Technology / Micrel; Standard Pack Qty: 5000; RoHS - Mouser: Y; Minimum Order Quantity: 1; Reeling: True; ComponentLink1URL: http://www.mouser.com/ds/2/268/mic9404x-1076851.pdf; ComponentLink1Description: http://www.mouser.com/ds/2/268/mic9404x-1076851.pdf; Supplier 2: Digi-Key; Supplier Part Number 2: 576-3228-6-ND; Stock 2: 138; Pricing 2: 1=0.83, 25=0.69, 100=0.6283 (USD); Part Status: Active; Output Configuration: High Side; Features: Load Discharge, Slew Rate Controlled; Fault Protection: -; Operating Temperature: -40°C ~ 125°C (TJ); Package / Case: 4-WQFN, 4-MLF®; Supplier Device Package: 4-MLF® (1.2x1.2); ComponentLink2URL: http://www.microchip.com/mymicrochip/filehandler.aspx?ddocname=en580796; ComponentLink2Description: http://www.microchip.com/mymicrochip/filehandler.aspx?ddocname=en580796
footprint U_MIC94043YFL-TR (DFN, 4-Leads, Body 1.20x1.20mm, Pitch 0.65mm, IPC Medium Density)
pins: 1 VOUT, 2 GND, 3 VIN, 4 EN
text: S2; D2; G2; (P); Active High; 200Ω

## U_NOA1212CUTAG
designator U?, comment NOA1212CUTAG
Ambient Light Sensor; Manufacturer: ON Semiconductor; Max Input Voltage: 5.5; Min Input Voltage: 2; Wavelength: 540; Operating Supply Current: 64; Supplier 1: Mouser; Supplier Part Number 1: 863-NOA1212CUTAG; Manufacturer Part Number: NOA1212CUTAG; Stock 1: 0; Pricing 1: 1=0.56, 10=0.466, 50=0.466, 100=0.301, 1000=0.241, 10000=0.196 (USD); Number of Pins: 6; Min Operating Temperature: -40; Max Operating Temperature: 85; Package Quantity: 2500; Packaging: Tape and Reel; Min Supply Voltage: 2; Max Supply Voltage: 5.5; Radiation Hardening: No; REACH SVHC: No SVHC; Lead Free: Lead Free; Halogen Free: Halogen Free; ComponentLink1URL: https://datasheet.ciiva.com/8113/noa1212-d-8113856.pdf; ComponentLink1Description: https://datasheet.ciiva.com/8113/noa1212-d-8113856.pdf; ComponentLink2URL: https://datasheet.ciiva.com/24007/noa1212-d-260440-24007717.pdf; ComponentLink2Description: https://datasheet.ciiva.com/24007/noa1212-d-260440-24007717.pdf; ComponentLink3URL: https://datasheet.ciiva.com/28377/noa1212-d-28377563.pdf; ComponentLink3Description: https://datasheet.ciiva.com/28377/noa1212-d-28377563.pdf
footprint U_NOA1212CUTAG (SON, 6-Leads, Body 1.60x1.60mm, Pitch 0.50mm, Thermal Pad 1.10x0.48mm, IPC Medium Density)
pins: 1 VDD, 2 VSS, 3 GB1, 4 GB2, 5 NC, 6 IOUT, 7 EP

## U_PNJ4K01F
designator U?, comment PNJ4K01F
Ambient Light Sensor; Manufacturer: Panasonic Electronic Components; Wavelength: 560nm; Proximity Detection: No; Output Type: Current; Voltage - Supply: 1.4 V ~ 5.5 V; Supplier 1: Digi-Key; Supplier Part Number 1: PNJ4K01FCT-ND; Manufacturer Part Number: PNJ4K01F; RoHS: RoHS Compliant; Category: Sensors, Transducers; Stock 1: 4826; Pricing 1: 1=0.7, 5=0.668, 10=0.582, 25=0.5112, 50=0.4248, 100=0.3618, 500=0.3146, 1000=0.27528 (USD); Packaging: Cut Tape (CT); Part Status: Active; Type: Ambient; Operating Temperature: -30°C ~ 85°C; Mounting Type: Surface Mount; Package / Case: 6-SMD, No Lead; Supplier Device Package: -; ComponentLink1URL: https://industrial.panasonic.com/content/data/SC/ds/ds4/PNJ4K01F_E.pdf; ComponentLink1Description: https://industrial.panasonic.com/content/data/SC/ds/ds4/PNJ4K01F_E.pdf
footprint U_PNJ4K01F (SON, 6-Leads, Body 1.55x1.50mm, Pitch 0.50mm, IPC Medium Density)
pins: 1 VCC, 2 GND, 3 GND, 4 GND, 5 GND, 6 IOUT